# Altium footprint library FB_1806_4516.PcbLib: 1 footprints
Each footprint in its own frame and in the unit in brackets; x right, y up, seen from the top. Pads: shape width x height; smd on the part's side, far side on the other; paste and mask are expansions set on the pad; w line width, h text height; cw(c..) or ccw(c..) is an arc to the next point about the centre after c.
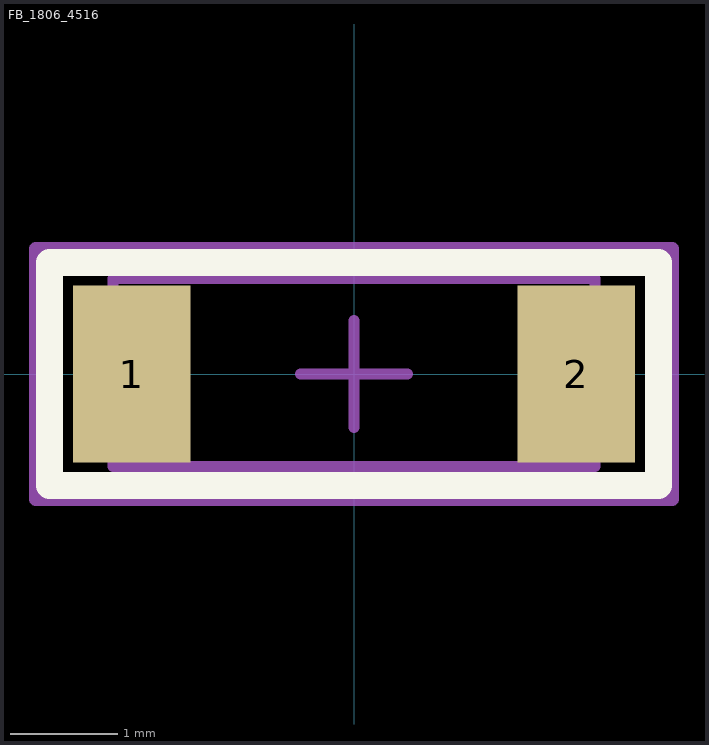
[diagram p0: the footprint, top view; thin cyan lines are the x and y axes]

## FB_1806_4516 [mm] "Chip Resistor, 2-Leads, Body 4.50x1.60mm, IPC Medium Density"
height 1.6
pads (2):
  rect 1.1x1.65 smd: 1(-2.075,0) 2(2.075,0)
Top Overlay:
  lines w0.254: -2.845,-1.041 -2.845,1.041 -2.692,1.041 2.845,1.041 2.845,-1.041 -2.845,-1.041
Mechanical 13:
  lines w0.1: -2.25,-0.864 2.25,-0.864 2.25,0.889 -2.25,0.889 -2.25,-0.864
Mechanical 15:
  lines w0.1: -0.5,0 0.5,0 ; 0,-0.5 0,0.5
  lines w0.127: -2.972,-1.168 2.972,-1.168 2.972,1.168 -2.972,1.168 -2.972,-1.168
Mechanical 17:
  text "'.Designator'" at -3.607,-0.229 h0.64
Mechanical 19:
  text "'.Comment'" at -2.489,-0.356 h0.64
3D body "User Library-BLM41P.STEP": height 1.6, standoff 0, extent -2.25,-0.787 2.25,0.813